# Altium footprint library FUSC3215X76N.PcbLib: 1 footprints
Each footprint in its own frame and in the unit in brackets; x right, y up, seen from the top. Pads: shape width x height; smd on the part's side, far side on the other; paste and mask are expansions set on the pad; w line width, h text height; cw(c..) or ccw(c..) is an arc to the next point about the centre after c.
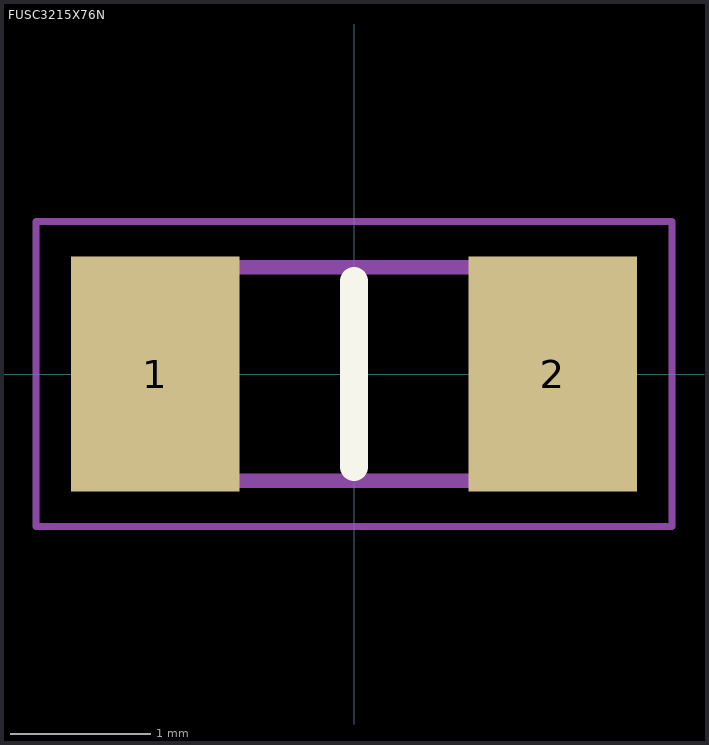
[diagram p0: the footprint, top view; thin cyan lines are the x and y axes]

## FUSC3215X76N [mm]
pads (2):
  rect 1.2x1.67 smd: 1(-1.415,0) 2(1.415,0)
Top Overlay:
  lines w0.2: 0,-0.66 0,0.66
Mechanical 15:
  lines w0.1: -1.59,-0.76 -1.59,0.76 1.59,0.76 1.59,-0.76 -1.59,-0.76
Mechanical 20:
  lines w0.05: -2.265,-1.085 -2.265,1.085 2.265,1.085 2.265,-1.085 -2.265,-1.085
3D body "0468001.NR.stp": height 0.76, standoff 0, extent -1.59,-0.76 1.59,0.76